# EAGLE library part SVF-CELL-V1.2 (library XM8)
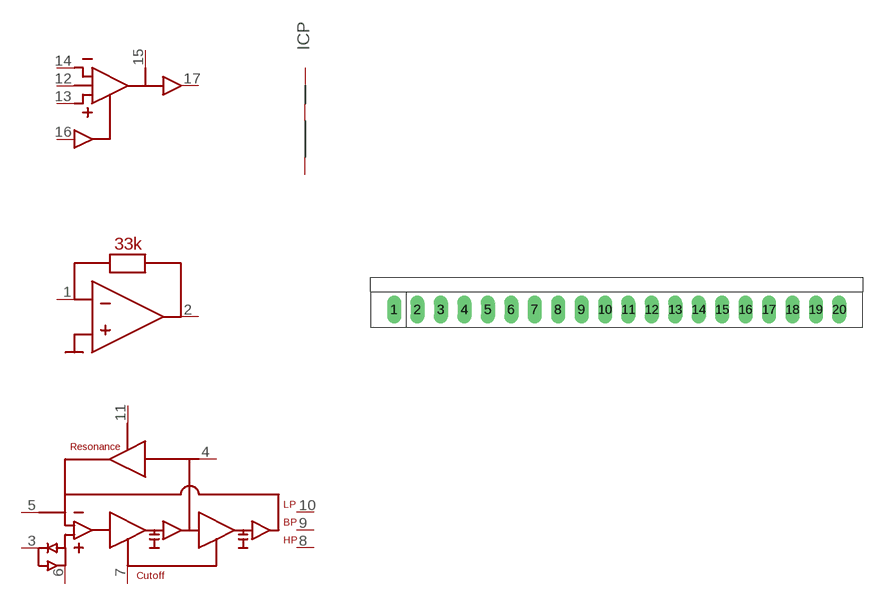
[diagram p27: symbol with the pads of XM8-SVF-CELL-V1.2V; footprint XM8-SVF-CELL-V1.2V]

Designator prefix IC; gates G$2=XM8-SVF-VCA-V1.0 G$3=XM8-SVF-OPAMP-V1.0 P=XM8-PWR G$1=XM8-SVF-CELL-V1.2

## SVF-CELL-V1.2  [XM8-SVF-CELL-V1.2V]
1  G$3:OPAMP_NEG
2  G$3:OPAMP_OUT
3  G$1:POS_IN
4  G$1:NEG_FEEDBACK
5  G$1:NEG_IN
6  G$1:PJ2
7  G$1:CUTOFF
8  G$1:HP
9  G$1:BP
10  G$1:LP
11  G$1:RESONANCE
12  G$2:VCA_BIAS
13  G$2:VCA_POS_IN
14  G$2:VCA_NEG_IN
15  G$2:VCA_GAIN
16  G$2:VCA_CV
17  G$2:VCA_OUT
18  P:+V  pwr
19  P:AGND  pwr
20  P:-V  pwr

## Footprint XM8-SVF-CELL-V1.2V (pad centres in mm)
Xonik SVF Cell, vertical mount
drill 1.016 long: 1 -24.13,0; 2 -21.59,0; 3 -19.05,0; 4 -16.51,0; 5 -13.97,0; 6 -11.43,0; 7 -8.89,0; 8 -6.35,0; 9 -3.81,0; 10 -1.27,0; 11 1.27,0; 12 3.81,0; 13 6.35,0; 14 8.89,0; 15 11.43,0; 16 13.97,0; 17 16.51,0; 18 19.05,0; 19 21.59,0; 20 24.13,0